# EAGLE library part 8X4164 (library commodore)
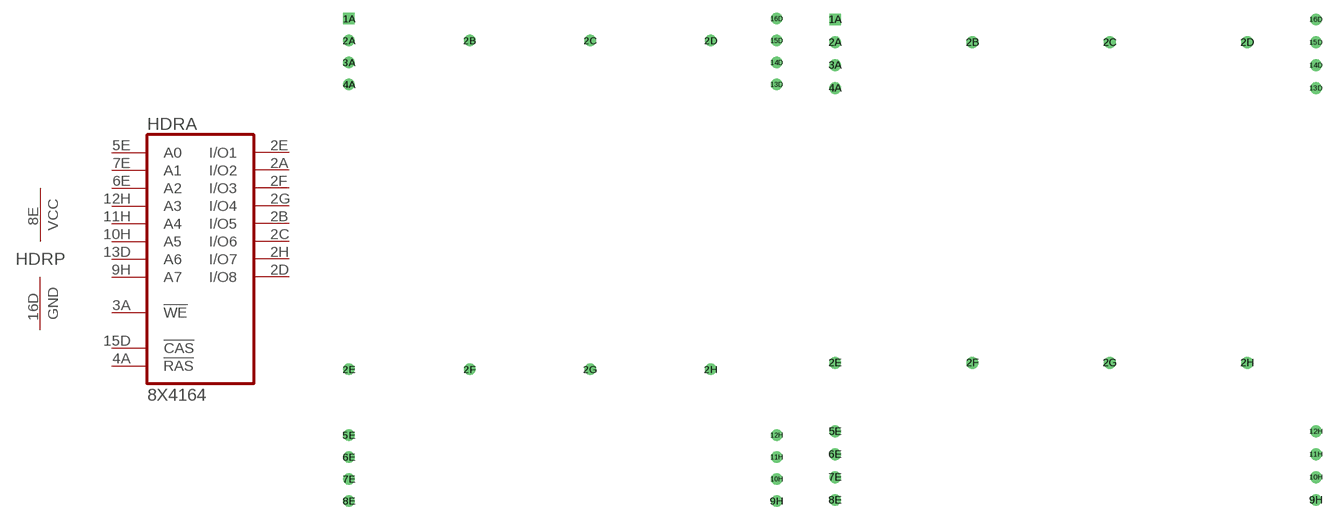
[diagram p56: symbol with the pads of 8XDIL16_REV; footprints 8XDIL16_REV, 8XDIL16_REV2]

Designator prefix HDR; gates P=PWRGND A=4164X8_DRAM

## 8X4164-1  [8XDIL16_REV]
2A  A:I/O2
2B  A:I/O5
2C  A:I/O6
2D  A:I/O8
2E  A:I/O1
2F  A:I/O3
2G  A:I/O4
2H  A:I/O7
3A  A:!WE  in
4A  A:!RAS  in
5E  A:A0  in
6E  A:A2  in
7E  A:A1  in
8E  P:VCC  pwr
9H  A:A7  in
10H  A:A5  in
11H  A:A4  in
12H  A:A3  in
13D  A:A6  in
15D  A:!CAS  in
16D  P:GND  pwr

## 8X4164-2  [8XDIL16_REV2]
Pads as for 8XDIL16_REV

## Footprint 8XDIL16_REV (pad centres in mm)
Dual In Line Package
drill 0.813 square: 1A -25.4,27.94
drill 0.813: 2A -25.4,25.4; 2B -11.43,25.4; 2C 2.54,25.4; 2D 16.51,25.4; 2E -25.4,-12.7; 2F -11.43,-12.7; 2G 2.54,-12.7; 2H 16.51,-12.7; 3A -25.4,22.86; 4A -25.4,20.32; 5E -25.4,-20.32; 6E -25.4,-22.86; 7E -25.4,-25.4; 8E -25.4,-27.94; 9H 24.13,-27.94; 10H 24.13,-25.4; 11H 24.13,-22.86; 12H 24.13,-20.32; 13D 24.13,20.32; 14D 24.13,22.86; 15D 24.13,25.4; 16D 24.13,27.94

## Footprint 8XDIL16_REV2 (pad centres in mm)
Dual In Line Package
drill 0.813 square: 1A -26.67,26.67
drill 0.813: 2A -26.67,24.13; 2B -11.43,24.13; 2C 3.81,24.13; 2D 19.05,24.13; 2E -26.67,-11.43; 2F -11.43,-11.43; 2G 3.81,-11.43; 2H 19.05,-11.43; 3A -26.67,21.59; 4A -26.67,19.05; 5E -26.67,-19.05; 6E -26.67,-21.59; 7E -26.67,-24.13; 8E -26.67,-26.67; 9H 26.67,-26.67; 10H 26.67,-24.13; 11H 26.67,-21.59; 12H 26.67,-19.05; 13D 26.67,19.05; 14D 26.67,21.59; 15D 26.67,24.13; 16D 26.67,26.67